# EAGLE library part ADC121S021 (library Harrington-ICs v130)
12-Bit SPI ADC Texas Instruments
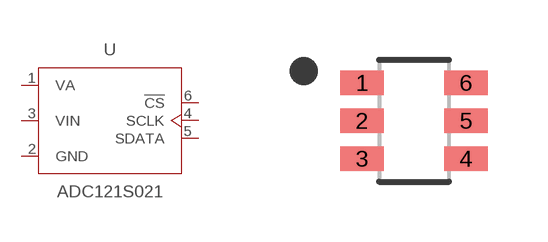
[diagram p18: symbol with the pads of SOT-23; footprint SOT-23]

Designator prefix U

## ADC121S021  [SOT-23]
1  VA  pwr
2  GND  pwr
3  VIN  in
4  SCLK  in
5  SDATA  out
6  !CS  in

## Footprint SOT-23 (pad centres in mm)
smd 1.1 x 0.6: 1 -1.3,0.95; 2 -1.3,0; 3 -1.3,-0.95; 4 1.3,-0.95; 5 1.3,0; 6 1.3,0.95